# Altium footprint library CustomParts.PcbLib: 3 footprints
Each footprint in its own frame and in the unit in brackets; x right, y up, seen from the top. Pads: shape width x height; smd on the part's side, far side on the other; paste and mask are expansions set on the pad; w line width, h text height; cw(c..) or ccw(c..) is an arc to the next point about the centre after c.
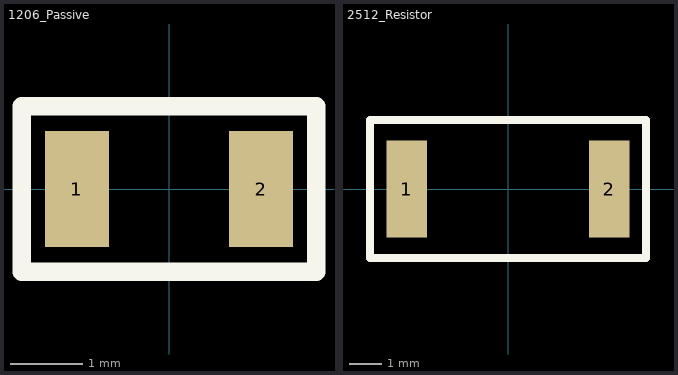
[diagram p0: the footprints below, top view; thin cyan lines are the x and y axes]

## 1206_Passive [mil]
pads (2):
  rect 35x63 smd: 1(-50,0) 2(50,0)
Top Overlay:
  lines w10: -80,-45 -80,-5.5 -80,45 80,45 80,-45 -80,-45

## 2512_Resistor [mil]
pads (2):
  rect 50x120 smd: 1(-125,0) 2(125,0)
Top Overlay:
  lines w10: -170,-85 170,-85 170,85 -170,85 -170,20 -170,-85

## PCBComponent_1 [mil]